# EAGLE library part UDA1334BTS (library smok)
Low-power audio DAC by Philips, http://www.rcscomponents.kiev.ua/modules/Asers_Shop/images/datasheets/UDA1334BTS.pdf
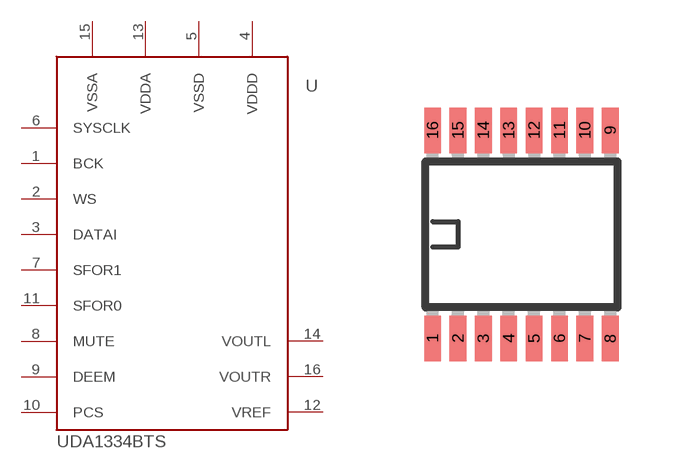
[diagram p2: symbol with the pads of SSOP16; footprint SSOP16]

Designator prefix -

## UDA1334BTS  [SSOP16]
1  BCK
2  WS
3  DATAI
4  VDDD
5  VSSD
6  SYSCLK
7  SFOR1
8  MUTE
9  DEEM
10  PCS
11  SFOR0
12  VREF
13  VDDA
14  VOUTL
15  VSSA
16  VOUTR

## Footprint SSOP16 (pad centres in mm)
GN Package 16-Lead Plastic SSOP (Narrow .150 Inch) Source: http://cds.linear.com/docs/Datasheet/623012fb.pdf
smd 0.419 x 1.143: 1 -2.223,-2.6; 2 -1.587,-2.6; 3 -0.953,-2.6; 4 -0.318,-2.6; 5 0.318,-2.6; 6 0.953,-2.6; 7 1.587,-2.6; 8 2.223,-2.6; 9 2.223,2.6; 10 1.587,2.6; 11 0.953,2.6; 12 0.318,2.6; 13 -0.318,2.6; 14 -0.953,2.6; 15 -1.587,2.6; 16 -2.223,2.6